# EAGLE library part LT3484 (library _ICs-Power)
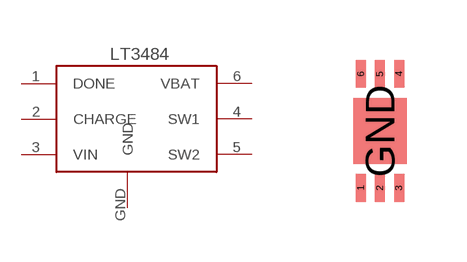
[diagram p1: symbol with the pads of LT3484; footprint LT3484]

Designator prefix -

## LT3484  [LT3484]
1  DONE
2  CHARGE
3  VIN
4  SW1
5  SW2
6  VBAT
GND  GND

## Footprint LT3484 (pad centres in mm)
smd 0.25 x 0.7: 1 -13.811,-1.111; 2 -13.335,-1.111; 3 -12.859,-1.111; 4 -12.859,1.746; 5 -13.335,1.746; 6 -13.811,1.746
smd 1.35 x 1.65: GND -13.335,0.318